# Altium footprint library SignalCommunications.PCBLIB: 466 footprints (part 14 of 30)
Each footprint in its own frame and in the unit in brackets; x right, y up, seen from the top. Pads: shape width x height; smd on the part's side, far side on the other; paste and mask are expansions set on the pad; w line width, h text height; cw(c..) or ccw(c..) is an arc to the next point about the centre after c.
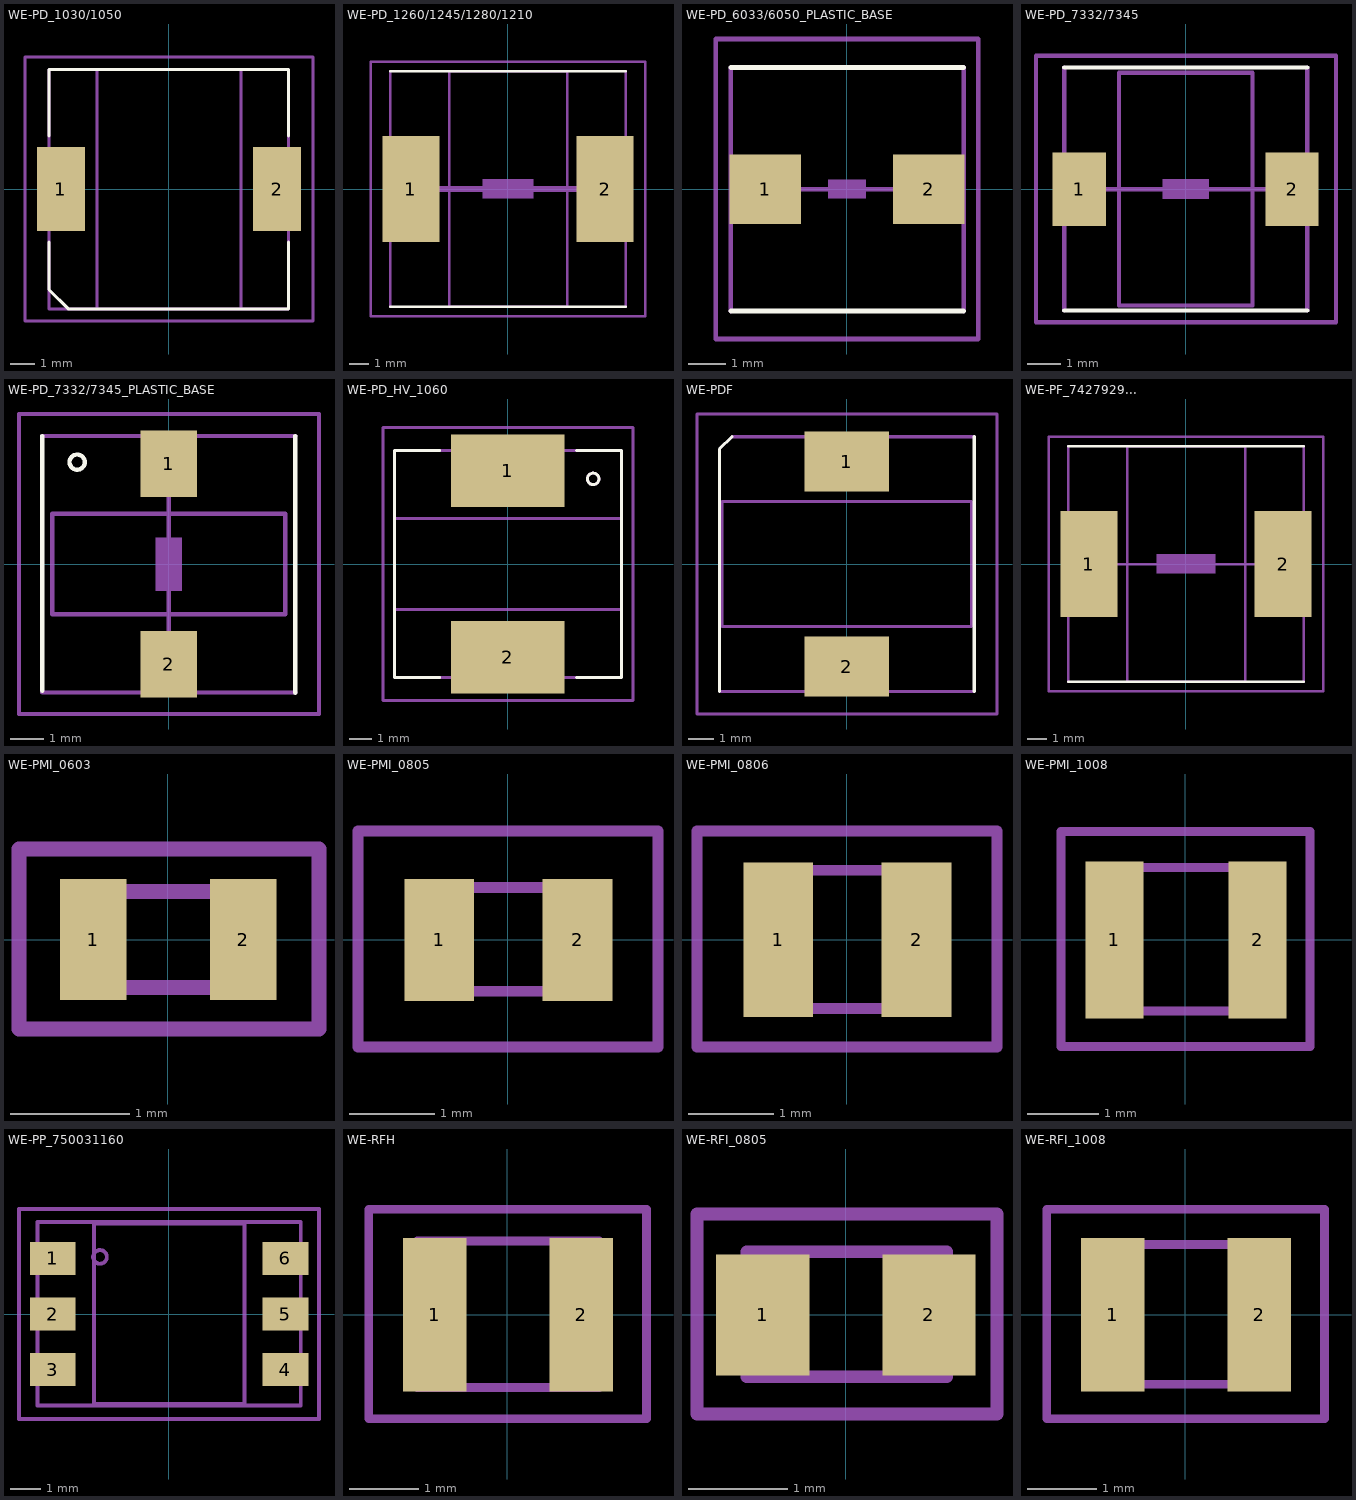
[diagram p13: the footprints below, top view; thin cyan lines are the x and y axes]

## WE-PD_1030/1050 [mil]
pads (2):
  rect 79x138 smd: 1(-177.17,0) 2(178,0)
Top Overlay:
  lines w5: -196.85,-86.61 -196.85,-165.35 -165.35,-196.85 197,-196.85 197,-86.61 ; -196.85,87 -196.85,197 197,197 197,87
Mechanical 10:
  lines w5: -118.11,-196.85 -118.11,197 119,197 119,-196.85 -118.11,-196.85
Mechanical 16:
  lines w5: -196.85,-196.85 -196.85,197 197,197 197,-196.85 -196.85,-196.85
Mechanical 27:
  lines w5: -236.22,-216.54 -236.22,217 237,217 237,-216.54 -236.22,-216.54

## WE-PD_1260/1245/1280/1210 [mil]
pads (2):
  rect 115x213 smd: 1(-194.88,0) 2(195,0)
Top Overlay:
  lines w5: -236.22,-236.22 237,-236.22 ; -236.22,237 237,237
Mechanical 10:
  lines w5: -118.11,-236.22 -118.11,237 119,237 119,-236.22 -118.11,-236.22
Mechanical 16:
  region: 51.75,-19.43 51.75,20.25 -51.43,20.25 -51.43,-19.43
  lines w5: -236.22,-236.22 -236.22,237 ; 237,-236.22 237,237
  lines w12: -194.88,0 195,0
Mechanical 27:
  lines w5: -275.59,-255.91 -275.59,256 276,256 276,-255.91 -275.59,-255.91

## WE-PD_6033/6050_PLASTIC_BASE [mil]
pads (2):
  rect 75x73 smd: 1(-85.83,0) 2(86,0)
Top Overlay:
  lines w5: -122.05,-127.95 123,-127.95 ; -122.05,128 123,128
Mechanical 16:
  rectangle: -19.68,-9.84 20,10
  lines w5: -122.05,-127.95 -122.05,128 ; -82.68,0 83,0 ; 123,-127.95 123,128
Mechanical 27:
  lines w5: -137.8,-157.48 -137.8,158 138,158 138,-157.48 -137.8,-157.48

## WE-PD_7332/7345 [mil]
pads (2):
  rect 63x87 smd: 1(-125.98,0) 2(126,0)
Top Overlay:
  lines w5: -143.7,-143.7 144,-143.7 ; -143.7,144 144,144
Mechanical 10:
  lines w5: -78.74,-137.8 -78.74,138 79,138 79,-137.8 -78.74,-137.8
Mechanical 16:
  region: 27.87,-11.69 27.87,12.13 -27.69,12.13 -27.69,-11.69
  lines w5: -143.7,-143.7 -143.7,144 ; -125.98,0 126,0 ; 144,-143.7 144,144
Mechanical 27:
  lines w5: -177.17,-157.48 -177.17,158 178,158 178,-157.48 -177.17,-157.48

## WE-PD_7332/7345_PLASTIC_BASE [mil]
pads (2):
  rect 67x79 smd: 1(0,119) 2(0,-118.11)
Top Overlay:
  circle w5: c-108.27,121 r9
  lines w5: -149.61,-149.61 -149.61,152 ; 150,-151.97 150,152
Mechanical 10:
  lines w5: -137.8,-59.06 -137.8,60 138,60 138,-59.06 -137.8,-59.06
Mechanical 16:
  rectangle: -15.75,-31.5 16,32
  lines w5: -149.61,-151.57 150,-151.57 ; -149.61,152 150,152 ; 0,-111.81 0,112
Mechanical 27:
  lines w5: -177.17,-177.17 -177.17,178 178,178 178,-177.17 -177.17,-177.17

## WE-PD_HV_1060 [mil]
pads (2):
  rect 197x126 smd: 1(0,162) 2(0,-161.42)
Top Overlay:
  circle w5: c148,148 r10
  lines w5: -118.11,-196.85 -196.85,-196.85 -196.85,197 -118.11,197 ; 119,-196.85 197,-196.85 197,197 119,197
Mechanical 10:
  lines w5: -196.85,-78.74 197,-78.74 197,79 -196.85,79 -196.85,-78.74
Mechanical 16:
  circle w5: c148,148 r10
  lines w5: -196.85,-196.85 -196.85,197 197,197 197,-196.85 -196.85,-196.85
Mechanical 27:
  lines w5: -216.54,-236.22 217,-236.22 217,237 -216.54,237 -216.54,-236.22

## WE-PDF [mil]
pads (2):
  rect 134x95 smd: 1(0,162) 2(0,-161.42)
Top Overlay:
  lines w5: -200.79,-200.79 -200.79,182 -181.1,201 ; 201,-200.79 201,201
Mechanical 10:
  lines w5: -196.85,-98.43 -196.85,99 197,99 197,-98.43 -196.85,-98.43
Mechanical 16:
  lines w5: -200.79,-200.79 201,-200.79 ; -181.1,201 201,201
Mechanical 27:
  lines w5: -236.22,-236.22 -236.22,237 237,237 237,-236.22 -236.22,-236.22

## WE-PF_7427929... [mil]
pads (2):
  rect 115x213 smd: 1(-194.88,0) 2(195,0)
Top Overlay:
  lines w5: -236.22,-236.22 237,-236.22 ; -236.22,237 237,237
Mechanical 10:
  lines w5: -118.11,-236.22 -118.11,237 119,237 119,-236.22 -118.11,-236.22
Mechanical 16:
  region: 59.69,-19.37 59.69,20.31 -59.37,20.31 -59.37,-19.37
  lines w5: -236.22,-236.22 -236.22,237 ; -196.85,0 197,0 ; 237,-236.22 237,237
Mechanical 27:
  lines w5: -275.59,-255.91 -275.59,256 276,256 276,-255.91 -275.59,-255.91

## WE-PMI_0603 [mil]
pads (2):
  rect 22x40 smd: 1(-24.61,0) 2(25,0)
Mechanical 16:
  lines w5: -31.5,-15.75 -31.5,16 32,16 32,-15.75 -31.5,-15.75
Mechanical 27:
  lines w5: -49.21,-29.53 -49.21,30 50,30 50,-29.53 -49.21,-29.53

## WE-PMI_0805 [mil]
pads (2):
  rect 32x56 smd: 1(-31.5,0) 2(32,0)
Mechanical 16:
  lines w5: -39.37,-23.62 40,-23.62 40,24 -39.37,24 -39.37,-23.62
Mechanical 27:
  lines w5: -68.9,-49.21 -68.9,50 69,50 69,-49.21 -68.9,-49.21

## WE-PMI_0806 [mil]
pads (2):
  rect 32x71 smd: 1(-31.5,0) 2(32,0)
Mechanical 16:
  lines w5: -39.37,-31.5 40,-31.5 40,32 -39.37,32 -39.37,-31.5
Mechanical 27:
  lines w5: -68.9,-49.21 -68.9,50 69,50 69,-49.21 -68.9,-49.21

## WE-PMI_1008 [mil]
pads (2):
  rect 32x87 smd: 1(-39.37,0) 2(40,0)
Mechanical 16:
  lines w5: -49.21,-39.37 50,-39.37 50,40 -49.21,40 -49.21,-39.37
Mechanical 27:
  lines w5: -68.9,-59.06 -68.9,60 69,60 69,-59.06 -68.9,-59.06

## WE-PP_750031160 [mil]
pads (6):
  rect 60x43 smd: 1(-152.56,73) 2(-152.56,0) 3(-152.56,-72.83) 4(153,-72.83) 5(153,0) 6(153,73)
Mechanical 10:
  lines w5: -98.43,-118.11 -98.43,119 99,119 99,-118.11 -98.43,-118.11
Mechanical 16:
  circle w5: c-90.55,75 r9
  lines w5: -172.44,-120.08 173,-120.08 173,121 -172.44,121 -172.44,-120.08
Mechanical 27:
  lines w5: -196.85,-137.8 -196.85,138 197,138 197,-137.8 -196.85,-137.8

## WE-RFH [mil]
pads (2):
  rect 36x87 smd: 1(-41.34,0) 2(42,0)
Mechanical 16:
  lines w5: -51.18,-41.34 52,-41.34 52,42 -51.18,42 -51.18,-41.34
Mechanical 27:
  lines w5: -78.74,-59.06 -78.74,60 79,60 79,-59.06 -78.74,-59.06

## WE-RFI_0805 [mil]
pads (2):
  rect 37x48 smd: 1(-32.97,0) 2(33,0)
Mechanical 16:
  lines w5: -39.37,-24.61 40,-24.61 40,25 -39.37,25 -39.37,-24.61
Mechanical 27:
  lines w5: -59.06,-39.37 -59.06,40 60,40 60,-39.37 -59.06,-39.37

## WE-RFI_1008 [mil]
pads (2):
  rect 36x87 smd: 1(-41.34,0) 2(42,0)
Mechanical 16:
  lines w5: -49.21,-39.37 50,-39.37 50,40 -49.21,40 -49.21,-39.37
Mechanical 27:
  lines w5: -78.74,-59.06 -78.74,60 79,60 79,-59.06 -78.74,-59.06